# Altium integrated library LM7805CT_NOPB.IntLib: 1 symbol
Pins are listed as number, name and electrical type; pins without a type are passive.

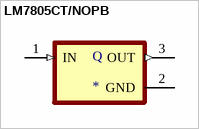
[diagram p0: symbol LM7805CT/NOPB]

## LM7805CT/NOPB
designator Q
Linear Voltage Regulator IC 1 Output 1A TO-220-3; MP: LM7805CT; MF: ON Semiconductor; SnapEDA_Link: https://www.snapeda.com/parts/LM7805CT/ON%20Semiconductor/view-part/546231/?ref=snap; Price: None; Package: TO-220 ON Semiconductor; Value: *; Availability: Unavailable
footprint TO254P1054X470X2600-3
pins: 1 IN (in), 2 GND (power), 3 OUT (out)